# Altium footprint library PcbLib_RC.PcbLib: 34 footprints (part 3 of 3)
Each footprint in its own frame and in the unit in brackets; x right, y up, seen from the top. Pads: shape width x height; smd on the part's side, far side on the other; paste and mask are expansions set on the pad; w line width, h text height; cw(c..) or ccw(c..) is an arc to the next point about the centre after c.
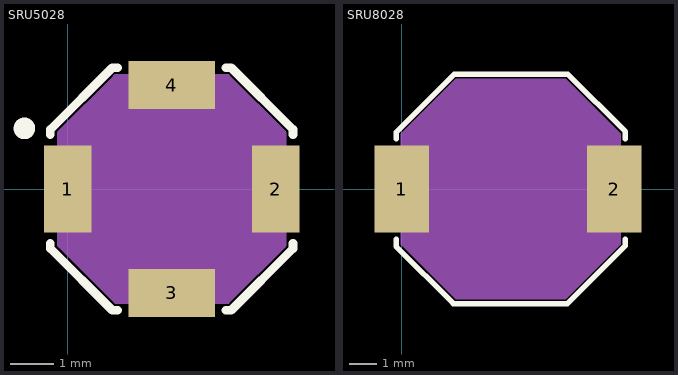
[diagram p2: the footprints below, top view; thin cyan lines are the x and y axes]

## SRU5028 [mm]
height 1.6
pads (4):
  rect 1.1x2 smd: 1(0,0) 2(4.8,0)
  rect 2x1.1 smd: 3(2.4,-2.4) 4(2.4,2.4)
Top Overlay:
  circle w0.25: c-1,1.4 r0.125
  lines w0.2: -0.4,-1.25 -0.4,-1.375 1.025,-2.8 1.15,-2.8 ; -0.4,1.25 -0.4,1.375 1.025,2.8 1.15,2.8 ; 3.65,-2.8 3.775,-2.8 5.2,-1.375 5.2,-1.25 ; 3.65,2.8 3.775,2.8 5.2,1.375 5.2,1.25
Mechanical 3:
  lines w0.1: -0.2,-1.295 1.105,-2.6 3.7,-2.6 5,-1.3 5,1.3 3.7,2.6 1.1,2.6 -0.2,1.3 -0.2,-1.295
  text ".Designator" at 0.4,-0.6 h1.5
Mechanical 4:
  region: -0.2,-1.3 1.1,-2.6 3.7,-2.6 5,-1.3 5,1.3 3.7,2.6 1.1,2.6 -0.2,1.3
3D body "sru5028.STEP": height 2.6, standoff -0.2, extent -0.2,-2.6 5,2.6

## SRU8028 [mm]
pads (2):
  rect 2x3.2 smd paste-5: 1(0,0) 2(7.8,0)
Top Overlay:
  lines w0.2: -0.2,-1.85 -0.2,-2.1 1.9,-4.2 6.075,-4.2 8.2,-2.075 8.2,-1.85 ; -0.2,1.85 -0.2,2.075 1.925,4.2 6.1,4.2 8.2,2.1 8.2,1.85
Top Paste:
  region: -0.511,-0.413 -0.511,0.087 -0.986,0.087 -0.986,-0.413
  region: 0.089,-0.413 0.089,0.087 -0.411,0.087 -0.411,-0.413
  region: 0.689,-0.413 0.689,0.087 0.189,0.087 0.189,-0.413
  region: -0.511,-1.013 -0.511,-0.513 -0.983,-0.513 -0.983,-1.013
  region: 0.089,-1.013 0.089,-0.513 -0.411,-0.513 -0.411,-1.013
  region: 0.689,-1.013 0.689,-0.513 0.189,-0.513 0.189,-1.013
  region: 0.689,-1.585 0.689,-1.113 0.189,-1.113 0.189,-1.585
  region: 0.089,-1.585 0.089,-1.113 -0.411,-1.113 -0.411,-1.585
  region: -0.511,-1.587 -0.511,-1.113 -0.986,-1.113 -0.986,-1.587
  region: 0.689,0.187 0.689,0.667 0.189,0.667 0.189,0.187
  region: 0.089,0.187 0.089,0.667 -0.411,0.667 -0.411,0.187
  region: -0.511,0.187 -0.511,0.667 -0.989,0.667 -0.989,0.187
  region: 0.987,-1.013 0.987,-0.513 0.789,-0.513 0.789,-1.013
  region: 0.99,-1.585 0.99,-1.113 0.789,-1.113 0.789,-1.585
  region: 0.988,-0.413 0.988,0.087 0.789,0.087 0.789,-0.413
  region: 0.989,0.187 0.989,0.667 0.789,0.667 0.789,0.187
  region: 0.993,1.367 0.993,1.591 0.793,1.591 0.793,1.367
  region: 0.993,0.767 0.993,1.267 0.793,1.267 0.793,0.767
  region: -0.507,1.367 -0.507,1.591 -0.993,1.591 -0.993,1.367
  region: 0.093,1.367 0.093,1.591 -0.407,1.591 -0.407,1.367
  region: 0.693,1.367 0.693,1.587 0.193,1.587 0.193,1.367
  region: 0.693,0.767 0.693,1.267 0.193,1.267 0.193,0.767
  region: 0.093,0.767 0.093,1.267 -0.407,1.267 -0.407,0.767
  region: -0.507,0.767 -0.507,1.267 -0.991,1.267 -0.991,0.767
  region: 7.291,0.761 7.291,1.261 6.807,1.261 6.807,0.761
  region: 7.891,0.761 7.891,1.261 7.391,1.261 7.391,0.761
  region: 8.491,0.761 8.491,1.261 7.991,1.261 7.991,0.761
  region: 8.491,1.361 8.491,1.581 7.991,1.581 7.991,1.361
  region: 7.891,1.361 7.891,1.585 7.391,1.585 7.391,1.361
  region: 7.291,1.361 7.291,1.585 6.805,1.585 6.805,1.361
  region: 8.791,0.761 8.791,1.261 8.591,1.261 8.591,0.761
  region: 8.791,1.361 8.791,1.585 8.591,1.585 8.591,1.361
  region: 8.787,0.181 8.787,0.661 8.587,0.661 8.587,0.181
  region: 8.786,-0.419 8.786,0.081 8.587,0.081 8.587,-0.419
  region: 8.788,-1.591 8.788,-1.119 8.587,-1.119 8.587,-1.591
  region: 8.785,-1.019 8.785,-0.519 8.587,-0.519 8.587,-1.019
  region: 7.287,0.181 7.287,0.661 6.809,0.661 6.809,0.181
  region: 7.887,0.181 7.887,0.661 7.387,0.661 7.387,0.181
  region: 8.487,0.181 8.487,0.661 7.987,0.661 7.987,0.181
  region: 7.287,-1.593 7.287,-1.119 6.812,-1.119 6.812,-1.593
  region: 7.887,-1.591 7.887,-1.119 7.387,-1.119 7.387,-1.591
  region: 8.487,-1.591 8.487,-1.119 7.987,-1.119 7.987,-1.591
  region: 8.487,-1.019 8.487,-0.519 7.987,-0.519 7.987,-1.019
  region: 7.887,-1.019 7.887,-0.519 7.387,-0.519 7.387,-1.019
  region: 7.287,-1.019 7.287,-0.519 6.815,-0.519 6.815,-1.019
  region: 8.487,-0.419 8.487,0.081 7.987,0.081 7.987,-0.419
  region: 7.887,-0.419 7.887,0.081 7.387,0.081 7.387,-0.419
  region: 7.287,-0.419 7.287,0.081 6.812,0.081 6.812,-0.419
Mechanical 3:
  circle w0.1: c4,0 r3
  lines w0.1: 0,-2 0,2 2,4 6,4 8,2 8,-2 6,-4 2,-4 0,-2
Mechanical 4:
  region: 0,-2 0,2 2,4 6,4 8,2 8,-2 6,-4 2,-4
3D body "sru8028.STEP": height 2.6, standoff -0.2, extent 0,-4 8,4